# Altium integrated library PilotMap_Main_Parts.IntLib: 21 symbols
Pins are listed as number, name and electrical type; pins without a type are passive.

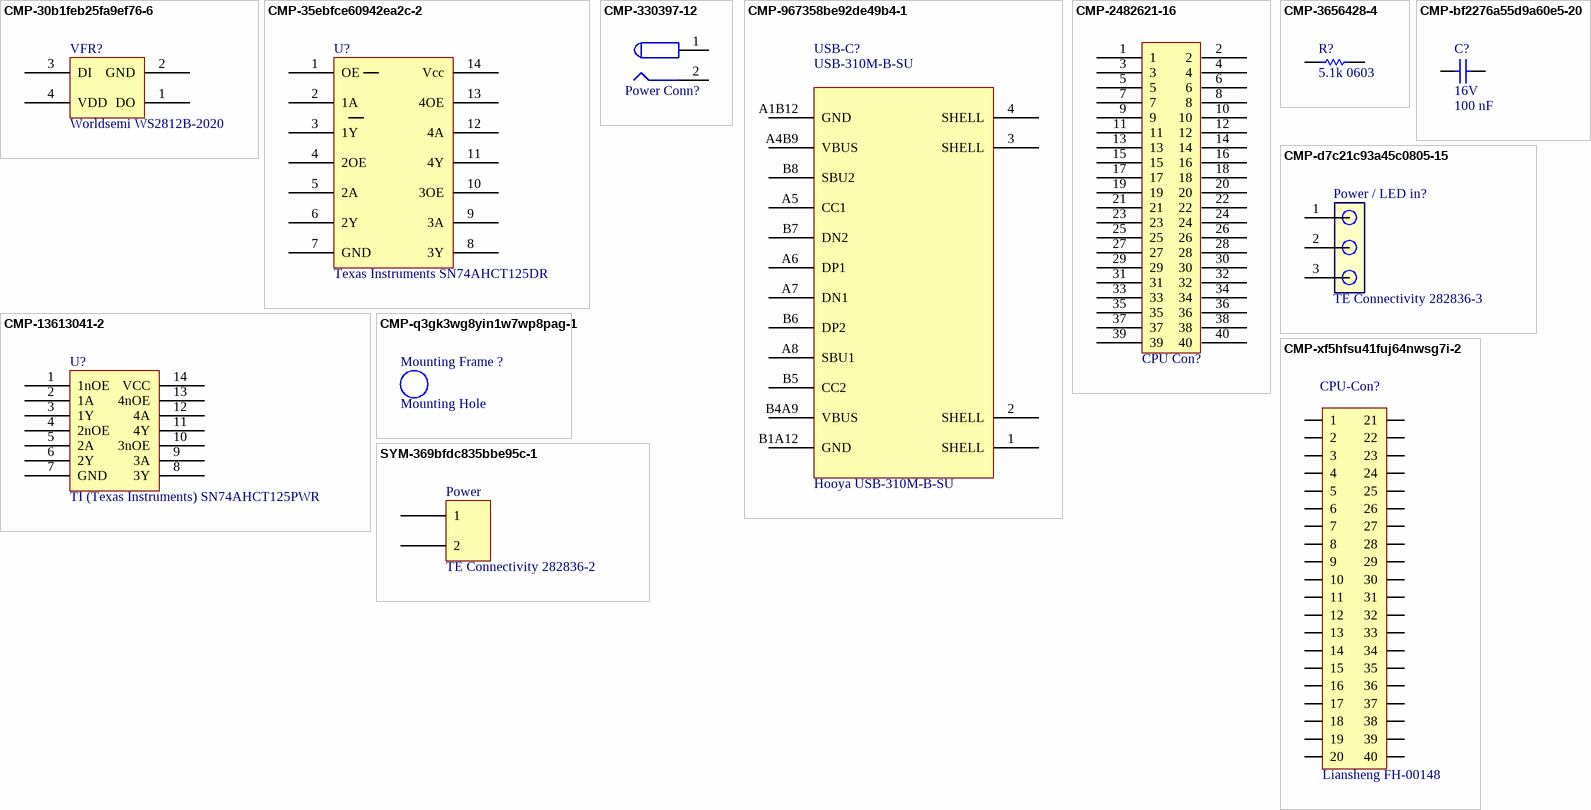
[diagram p0: symbols CMP-30b1feb25fa9ef76-6 to SYM-369bfdc835bbe95c-1]

## CMP-30b1feb25fa9ef76-6
designator VFR?, comment Worldsemi WS2812B-2020
Manufacturer Part Number: WS2812B-2020; Footprint: PCB-18681qzhn4j348g96a9l-1; Octopart URL: https://octopart.com/ws2812b-2020-worldsemi-118049406; OctopartID: 30b1feb25fa9ef76
footprint PCB-18681qzhn4j348g96a9l-1 (Footprint - Worldsemi WS2812B-2020)
pins: 1 DO, 2 GND, 3 DI, 4 VDD

## CMP-35ebfce60942ea2c-2
designator U?, comment Texas Instruments SN74AHCT125DR
Buffer/Line Driver 4-CH Non-Inverting 3-ST CMOS 14-Pin SOIC T/R; Number of Outputs: 4; Voltage Nodes: 5.00 V; Propagation Delay Max (tpd): 8.50 ns; Quiescent Current: 2.00 µA (max); Supply Voltage (DC): 4.50 V to 5.50 V; Output Current Drive: -1.00 mA; Lead-Free Status: Lead Free; Packaging: Tape & Reel (TR); Lifecycle Status: Active; Operating Temperature: -40.0 °C (min); Manufacturer Part Number: SN74AHCT125DR; Case/Package: SOIC-14_3.9x8.7x1.27P; Mounting Style: Surface Mount; OctopartID: 35ebfce60942ea2c; Octopart URL: https://octopart.com/sn74ahct125dr-texas+instruments-465359; Footprint: PCB-4n9l8bvb0hxmq9svv09s-1; RoHS: Compliant; Number of Pins: 14; REACH SVHC Compliance: No SVHC; Number of Circuits: 4; Number of Bits: 4
footprint PCB-4n9l8bvb0hxmq9svv09s-1 (Footprint - Texas Instruments SN74AHCT125DR)
pins: 1 OE, 2 1A, 3 1Y, 4 2OE, 5 2A, 6 2Y, 7 GND, 8 3Y, 9 3A, 10 3OE, 11 4Y, 12 4A, 13 4OE, 14 Vcc

## CMP-330397-12
designator Power Conn?, comment SYM-d2791a514fce0dbe-1  (value not drawn)
CUI PJ-037A; Shielding: No
footprint PCB-h5dulpljww4oyv25n50t-1 (Footprint - Connector, Power Barrel 2.1mm x 5.5mm)
pins: 1 POS, 2 NEG

## CMP-967358be92de49b4-1
designator USB-C?, comment Hooya USB-310M-B-SU
3A 1 Surface Mount 16 Female Type-C SMD USB Connector ROHS; Manufacturer Part Number: USB-310M-B-SU; OctopartID: 967358be92de49b4; Octopart Url: https://octopart.com/usb-310m-b-su-hooya-130490827
footprint Hooya USB-310M-B-SU-Footprint-1
pins: 1 SHELL, 2 SHELL, 3 SHELL, 4 SHELL, A1B12 GND, A4B9 VBUS, A5 CC1, A6 DP1, A7 DN1, A8 SBU1, B1A12 GND, B4A9 VBUS, B5 CC2, B6 DP2, B7 DN2, B8 SBU2

## CMP-2482621-16
designator CPU Con?, comment 40 pin Female connector  (value not drawn)
2.54mm (0.1") Pitch DIL Vertical PC Tail Socket Assembly, tin, 20+20 contacts
footprint Harwin 40 pin Female (Footprint - Harwin M20-7832046)
pins: 1, 2, 3, 4, 5, 6, 7, 8, 9, 10, 11, 12, 13, 14, 15, 16, 17, 18, 19, 20, 21, 22, 23, 24, 25, 26, 27, 28, 29, 30, 31, 32, 33, 34, 35, 36, 37, 38, 39, 40

## CMP-3656428-4
designator R?, comment 5.1k 0603
Res Thick Film 0603 5.1K Ohm 1% 1/10W ±100ppm/°C Molded SMD SMD Punched Carrier T/R; Manufacturer Part Number: ERJ-3EKF5101V; Voltage Rating (DC): 75.0 V; Power Rating: 100 mW; Lead-Free Status: Lead Free; Resistance: 5.1 kΩ; REACH SVHC Compliance: No SVHC; Lifecycle Status: Not Listed by Manufacturer; Packaging: Cut Tape (CT); Mounting Style: Surface Mount; RoHS: Compliant; OctopartID: 45aa8fedcba59a6d; Case/Package: 0603; Octopart URL: http://octopart.com/erj-3ekf5101v-panasonic-55421801; Resistance Tolerance: ±1%
footprint CAPC1608X90X35NL15T15
footprint CAPC1608X90X35LL15T15
pins: 1, 2

## CMP-13613041-2
designator U?, comment TI (Texas Instruments) SN74AHCT125PWR
IC BUS BUFFER TRI-ST QD 14TSSOP; Lead-Free Status: Lead Free; Number of Bits: 4; Output Current Drive: -0.001 A; Propagation Delay Max (tpd): 8.5e-09 s; Voltage Nodes: 5.0 V; Case/Package: TSSOP; Lifecycle Status: Active; Mounting Style: Surface Mount; Number of Circuits: 4; Number of Outputs: 4; Number of Pins: 14; Octopart Url: https://octopart.com/sn74ahct125pwr-texas+instruments-46548606; OctopartID: 822b49e7e1335dec; Packaging: Cut Tape (CT); REACH SVHC Compliance: No SVHC; RoHS: Compliant; Manufacturer Part Number: SN74AHCT125PWR
footprint PCB-19361381-1 (Footprint - TI (Texas Instruments) SN74LVC125APWR)
pins: 1 1nOE, 2 1A, 3 1Y, 4 2nOE, 5 2A, 6 2Y, 7 GND, 8 3Y, 9 3A, 10 3nOE, 11 4Y, 12 4A, 13 4nOE, 14 VCC

## CMP-bf2276a55d9a60e5-20
designator C?, comment 16V  Capacitance: 100 nF
Generic CAP 0402, =Capacitance+','+Tolerance+','+Voltage+','+Dielectric+','+Case; Manufacturer Part Number: TBD; Lead-Free Status: Lead Free; Voltage: 25V; Dielectric: CGO; Tolerance: ±10%; Octopart URL: TBD; Case: 0402; OctopartID: 0755ced2c795d892; RoHS: Compliant; Mounting Style: Surface Mount; Footprint: PCB-0002-00476-3
footprint CAPC1005X56X25NL10T15
footprint CAPC1005X56X25ML10T15
footprint CAPC1005X56X25LL10T15
pins: 1, 2

## CMP-d7c21c93a45c0805-15
designator Power / LED in?, comment TE Connectivity 282836-3
Conn; Term Blk; Wire Receptacle; 3; 5 mm; 30-16 AWG; Green; 13.5 A; 300 V; Number of Contacts: 3; Lead-Free Status: Lead Free; Pin Pitch: 5.00 mm; Wire Gauge: 15.0 AWG; Voltage Rating (AC): 250 V; Current Rating: 13.5 A; ELV Compliant: Compliant; Octopart URL: http://octopart.com/282836-3-te+connectivity-39540472; Manufacturer Part Number: 282836-3; Housing Material: Nylon 6/6; Housing Color: Green; RoHS: Compliant; Orientation: Right Angle; Mounting Style: PCB; Number of Positions: 3; Insulation Material: Nylon; Flammability Rating: UL 94 V-0; OctopartID: d7c21c93a45c0805; Lifecycle Status: Active; REACH SVHC Compliance: No SVHC; Color: Green; Contact Plating: Tin; Contact Material: Brass
footprint 282836-3 (Footprint - TE Connectivity 282836-3)
pins: 1, 2, 3

## CMP-q3gk3wg8yin1w7wp8pag-1
designator Mounting Frame ?, comment Mounting Hole
Mounting Hole 3.5mm; CustomComponentID: q3gk3wg8yin1w7wp8pag
footprint PCB-q0vxx67e01kaxtvhakkm-1 (Footprint - Mounting Hole)

## CMP-xf5hfsu41fuj64nwsg7i-2
designator CPU-Con?, comment Liansheng FH-00148
2.54mm 2.54mm 3A Gold Brass -40℃~+105℃ 260℃@10S Brick nogging 2x20P 7.1mm Top 40 Square Holes SMD,P=2.54mm Female Headers ROHS; CustomComponentID: xf5hfsu41fuj64nwsg7i; ComponentLink1Description: Website; ComponentLink1URL: https://www.lcsc.com/product-detail/Female-Headers_Liansheng-FH-00148_C2685092.html
footprint Liansheng_FH-00148_Footprint_01
pins: 1, 2, 3, 4, 5, 6, 7, 8, 9, 10, 11, 12, 13, 14, 15, 16, 17, 18, 19, 20, 21, 22, 23, 24, 25, 26, 27, 28, 29, 30, 31, 32, 33, 34, 35, 36, 37, 38, 39, 40

## SYM-369bfdc835bbe95c-1
designator Power, comment TE Connectivity 282836-2
Wire to Board 2 Position 5 mm Pitch 30-16 AWG Euro Style Terminal Block; Current Rating: 13.5 A; Number of Positions: 2; Wire Gauge: 15.0 AWG; Voltage Rating (AC): 250.0 V; Lead-Free Status: Lead Free; Pin Pitch: 0.005 m; ELV Compliant: Compliant; Contact Material: Brass; Housing Material: Nylon 6/6; Flammability Rating: UL 94 V-0; Lifecycle Status: Active; RoHS: Compliant; Manufacturer Part Number: 282836-2; Housing Color: Green; Octopart URL: http://octopart.com/282836-2-te+connectivity-39396934; Mounting Style: PCB; Orientation: Right Angle; Color: Green; REACH SVHC Compliance: No SVHC; Contact Plating: Tin; Insulation Material: Nylon; OctopartID: 369bfdc835bbe95c; Number of Contacts: 2
footprint PCB-0kdx5sneyudsmu18l6zv-1
pins: 1, 2


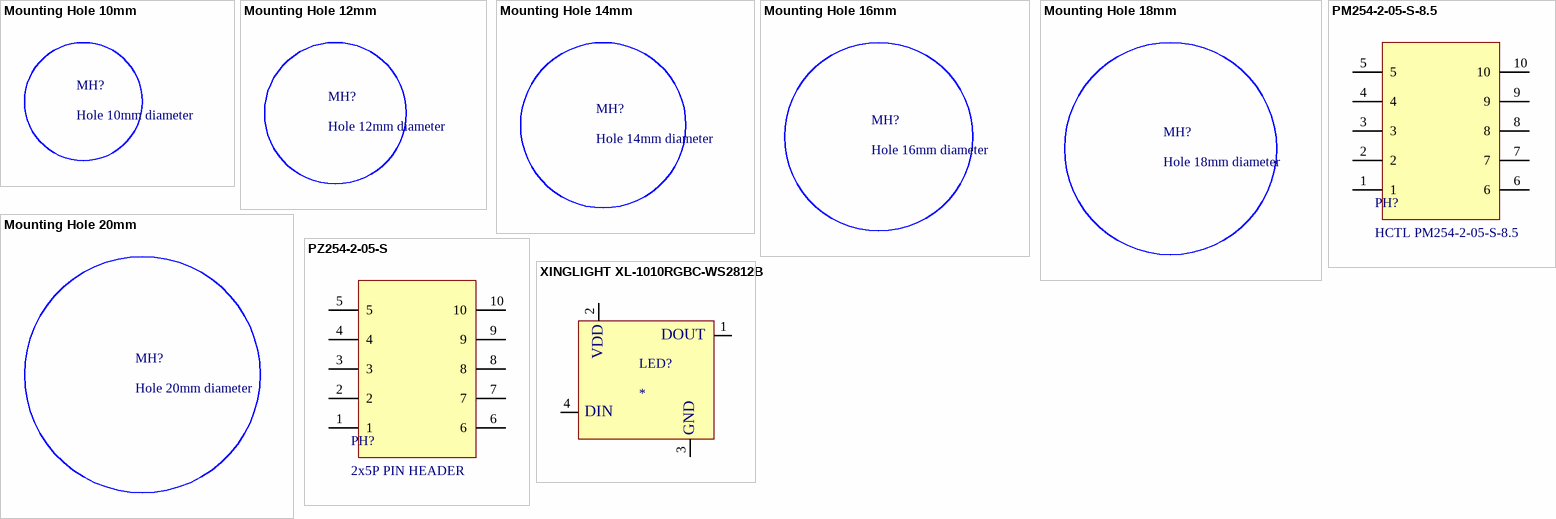
[diagram p1: symbols Mounting Hole 10mm to XINGLIGHT XL-1010RGBC-WS2812B]

## Mounting Hole 10mm
designator MH?, comment Hole 10mm diameter
Hole for mounting
footprint Mounting Hole 10mm

## Mounting Hole 12mm
designator MH?, comment Hole 12mm diameter
Hole for mounting
footprint Mounting Hole 12mm

## Mounting Hole 14mm
designator MH?, comment Hole 14mm diameter
Hole for mounting
footprint Mounting Hole 14mm

## Mounting Hole 16mm
designator MH?, comment Hole 16mm diameter
Hole for mounting
footprint Mounting Hole 16mm

## Mounting Hole 18mm
designator MH?, comment Hole 18mm diameter
Hole for mounting
footprint Mounting Hole 18mm

## Mounting Hole 20mm
designator MH?, comment Hole 20mm diameter
Hole for mounting
footprint Mounting Hole 20mm

## PM254-2-05-S-8.5
designator PH?, comment HCTL PM254-2-05-S-8.5
2.54mm 2.54mm 260℃@5S 3A -40℃~+105℃ Copper Alloy 10P Brick nogging 2x5P Top 8.5mm Square Hole SMD,P=2.54mm Female Headers ROHS; ComponentLink1Description: New link; ComponentLink1URL: https://www.lcsc.com/product-detail/Female-Headers_HCTL-PM254-2-05-S-8-5_C3975150.html
footprint PM254-2-05-S-8.5
pins: 1, 2, 3, 4, 5, 6, 7, 8, 9, 10

## PZ254-2-05-S
designator PH?, comment 2x5P PIN HEADER
250V 3A Brick nogging Square Pins 2.5mm 260℃@5S 6mm 10P -40℃~+105℃ 2.54mm Black 2.54mm 2x5P SMD,P=2.54mm Pin Headers ROHS; ComponentLink1Description: New link; ComponentLink1URL: https://www.lcsc.com/product-detail/Pin-Headers_HCTL-PZ254-2-05-S_C3294463.html
footprint PZ254-2-05-S
pins: 1, 2, 3, 4, 5, 6, 7, 8, 9, 10

## XINGLIGHT XL-1010RGBC-WS2812B
designator LED?
footprint XINGLIGHT XL-1010RGBC-WS2812B
pins: 1 7, 2, 3, 4
text: DOUT; VDD; DIN; GND